# EAGLE library part MAX6364 (library microbuilder)
MAX6364 - Low Power Voltage Supervisor (3.08V) with Battery Backup This 'battery backup supervisor' will supply up to 150mA of current from VCC. If VCC ever drops below the 3.08V threshold, the supervisor will automatically switch the power supply to battery power, allowing you to safely 'fall-back' on a secondary power source for critical applications, or where you know that the main power suppy is inherently volatile (solar panels, etc.) Digikey: MAX6364LUT31+TCT-ND
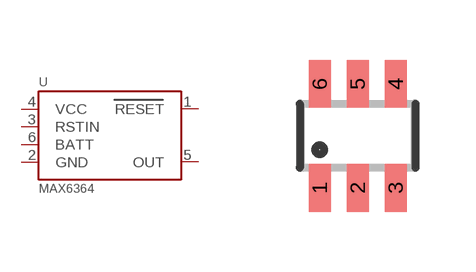
[diagram p34: symbol with the pads of SOT23-6; footprint SOT23-6]

Designator prefix U

## MAX6364  [SOT23-6]
1  RESET
2  GND  pwr
3  RSTIN
4  VCC  pwr
5  OUT
6  BATT

## Footprint SOT23-6 (pad centres in mm)
Small Outline Transistor - 6 Pin
smd 0.55 x 1.2: 1 -0.95,-1.3; 2 0,-1.3; 3 0.95,-1.3; 4 0.95,1.3; 5 0,1.3; 6 -0.95,1.3